# Altium integrated library Microchip PIC16 Part 2.IntLib: 1569 symbols (part 13 of 56)
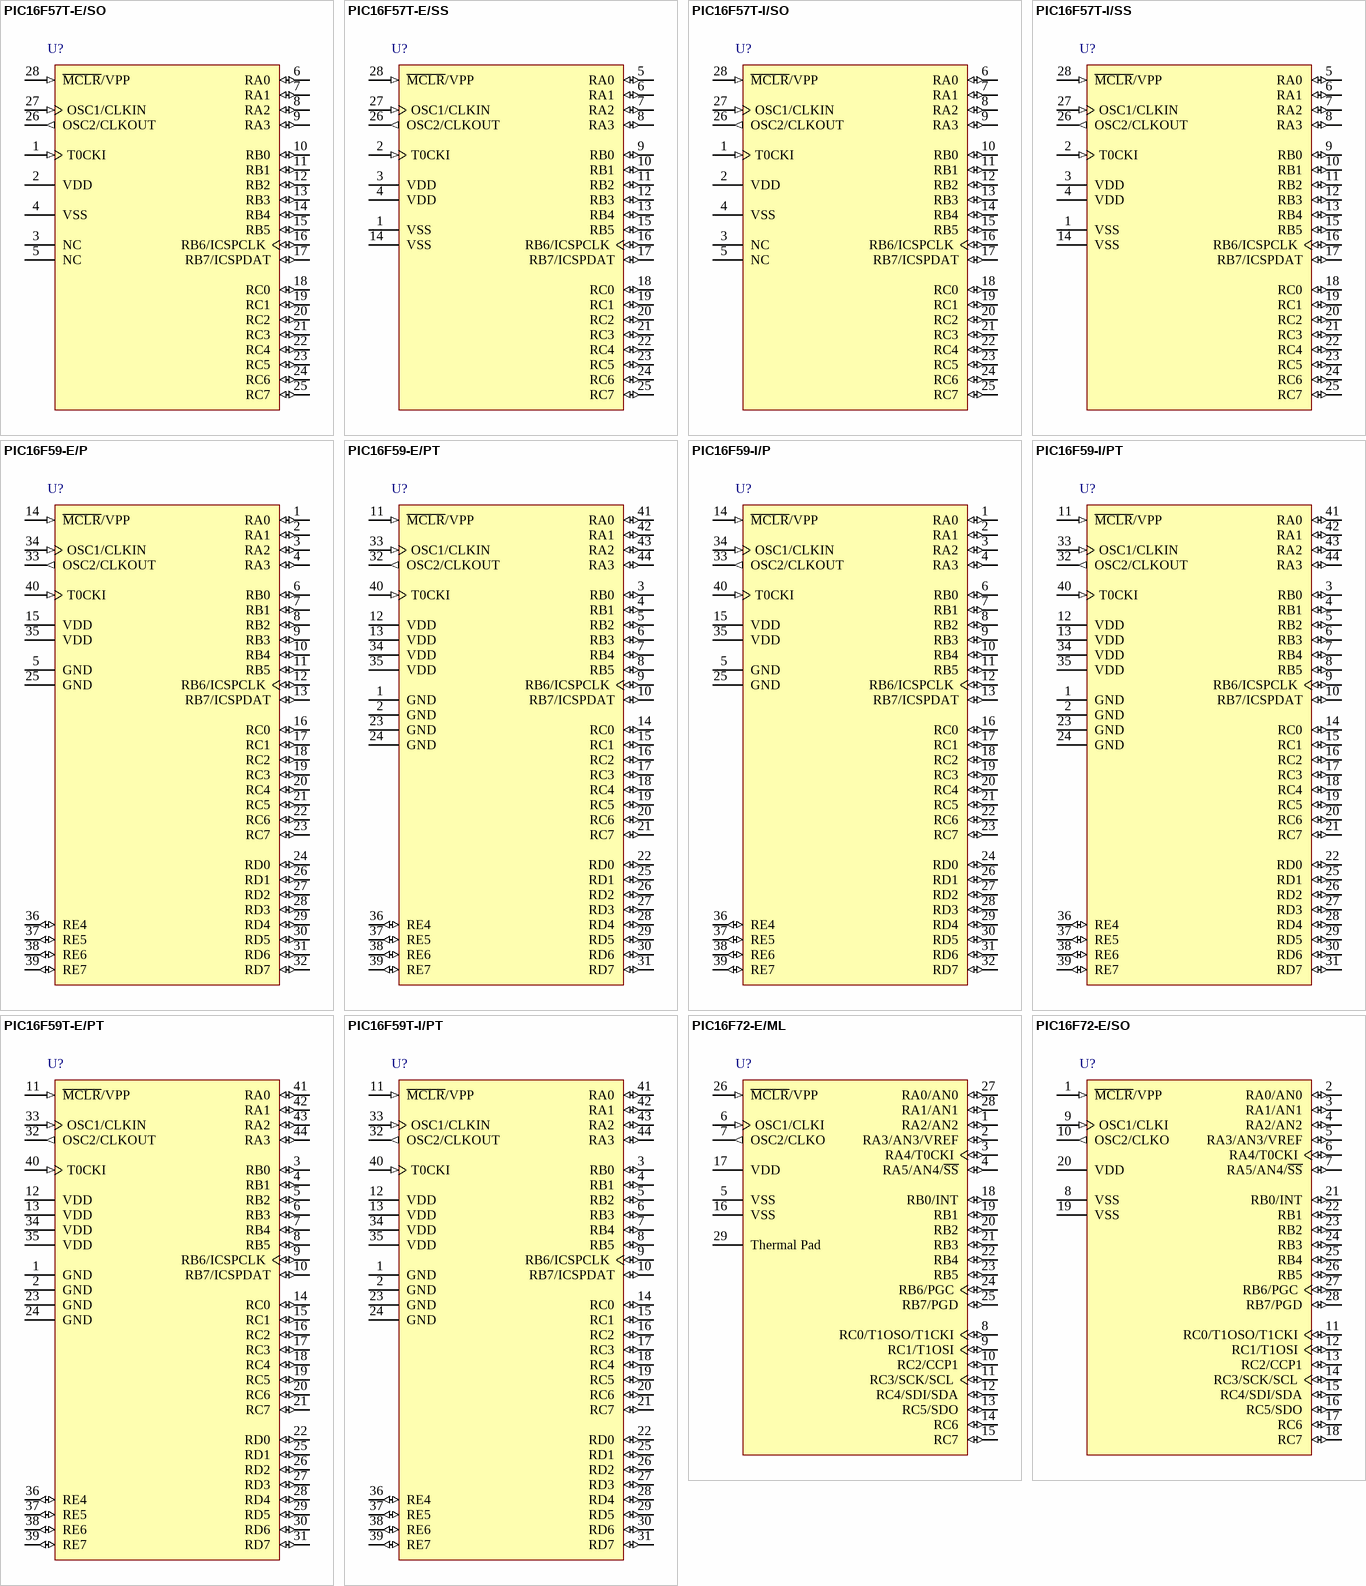
[diagram p137: symbols PIC16F57T-E/SO to PIC16F72-E/SO]

## PIC16F59-E/P
designator U?
Flash-Based, 8-Bit CMOS Microcontroller, 2K (x12-Bit words) Program Memory, 134 Bytes Data Memory, 32 I/O pins, 40-Pin PDIP, Standard VDD Range, Extended Temperature; Manufacturer: Microchip; PartNumber: PIC16F59-E/P; DatasheetVersion: revD, Apr-2007; PackageVersion: revBB, Aug-2009; PackageReference: PDIP600-P40; PackageDescription: 40-Lead Plastic Dual In-Line (P) - 600 mil Body [PDIP]; Supplier 1: Digi-Key; Supplier Part Number 1: PIC16F59-E/P-ND; Supplier 2: Mouser; Supplier Part Number 2: 579-PIC16F59-E/P; ComponentLink1Description: Manufacturer URL; ComponentLink1URL: http://www.microchip.com/; ComponentLink2Description: Datasheet; ComponentLink2URL: http://ww1.microchip.com/downloads/en/DeviceDoc/41213D.pdf; ComponentLink3Description: Package Specification; ComponentLink3URL: http://www.microchip.com/stellent/groups/techpub_sg/documents/packagingspec/en012702.pdf
footprint PDIP600-P40 (DIP, 40-Leads, Row Spacing 15.24mm, Pitch 2.54mm, Body 51.8x13.5mm)
pins: 1 RA0 (io), 2 RA1 (io), 3 RA2 (io), 4 RA3 (io), 5 GND (power), 6 RB0 (io), 7 RB1 (io), 8 RB2 (io), 9 RB3 (io), 10 RB4 (io), 11 RB5 (io), 12 RB6/ICSPCLK (io), 13 RB7/ICSPDAT (io), 14 ~{MCLR}/VPP (in), 15 VDD (power), 16 RC0 (io), 17 RC1 (io), 18 RC2 (io), 19 RC3 (io), 20 RC4 (io), 21 RC5 (io), 22 RC6 (io), 23 RC7 (io), 24 RD0 (io), 25 GND (power), 26 RD1 (io), 27 RD2 (io), 28 RD3 (io), 29 RD4 (io), 30 RD5 (io), 31 RD6 (io), 32 RD7 (io), 33 OSC2/CLKOUT (out), 34 OSC1/CLKIN (in), 35 VDD (power), 36 RE4 (io), 37 RE5 (io), 38 RE6 (io), 39 RE7 (io), 40 T0CKI (in)

## PIC16F59-E/PT
designator U?
Flash-Based, 8-Bit CMOS Microcontroller, 2K (x12-Bit words) Program Memory, 134 Bytes Data Memory, 32 I/O pins, 44-Pin TQFP, Standard VDD Range, Extended Temperature; Manufacturer: Microchip; PartNumber: PIC16F59-E/PT; DatasheetVersion: revD, Apr-2007; PackageVersion: revBB, Aug-2009; PackageReference: TQFP-PT44; PackageDescription: 44-Lead Plastic Thin Quad Flatpack (PT) - 10x10x1mm Body, 2.00mm [TQFP]; Supplier 1: Digi-Key; Supplier Part Number 1: PIC16F59-E/PT-ND; Supplier 2: Mouser; Supplier Part Number 2: 579-PIC16F59-E/PT; Code_JEDEC: MS-026; ComponentLink1Description: Manufacturer URL; ComponentLink1URL: http://www.microchip.com/; ComponentLink2Description: Datasheet; ComponentLink2URL: http://ww1.microchip.com/downloads/en/DeviceDoc/41213D.pdf; ComponentLink3Description: Package Specification; ComponentLink3URL: http://www.microchip.com/stellent/groups/techpub_sg/documents/packagingspec/en012702.pdf
footprint TQFP-PT44_N (Thin QFP, 44-Leads, Body 10x10mm, Pitch 0.8mm, IPC Medium Density)
footprint TQFP-PT44_L (Thin QFP, 44-Leads, Body 10x10mm, Pitch 0.8mm, IPC High Density)
footprint TQFP-PT44_M (Thin QFP, 44-Leads, Body 10x10mm, Pitch 0.8mm, IPC Low Density)
pins: 1 GND (power), 2 GND (power), 3 RB0 (io), 4 RB1 (io), 5 RB2 (io), 6 RB3 (io), 7 RB4 (io), 8 RB5 (io), 9 RB6/ICSPCLK (io), 10 RB7/ICSPDAT (io), 11 ~{MCLR}/VPP (in), 12 VDD (power), 13 VDD (power), 14 RC0 (io), 15 RC1 (io), 16 RC2 (io), 17 RC3 (io), 18 RC4 (io), 19 RC5 (io), 20 RC6 (io), 21 RC7 (io), 22 RD0 (io), 23 GND (power), 24 GND (power), 25 RD1 (io), 26 RD2 (io), 27 RD3 (io), 28 RD4 (io), 29 RD5 (io), 30 RD6 (io), 31 RD7 (io), 32 OSC2/CLKOUT (out), 33 OSC1/CLKIN (in), 34 VDD (power), 35 VDD (power), 36 RE4 (io), 37 RE5 (io), 38 RE6 (io), 39 RE7 (io), 40 T0CKI (in), 41 RA0 (io), 42 RA1 (io), 43 RA2 (io), 44 RA3 (io)

## PIC16F59-I/P
designator U?
Flash-Based, 8-Bit CMOS Microcontroller, 2K (x12-Bit words) Program Memory, 134 Bytes Data Memory, 32 I/O pins, 40-Pin PDIP, Standard VDD Range, Industrial Temperature; Manufacturer: Microchip; PartNumber: PIC16F59-I/P; DatasheetVersion: revD, Apr-2007; PackageVersion: revBB, Aug-2009; PackageReference: PDIP600-P40; PackageDescription: 40-Lead Plastic Dual In-Line (P) - 600 mil Body [PDIP]; Supplier 1: Digi-Key; Supplier Part Number 1: PIC16F59-I/P-ND; Supplier 2: Farnell; Supplier Part Number 2: 9942866; Supplier 3: Newark; Supplier Part Number 3: 92K8086; Supplier 4: Newark; Supplier Part Number 4: 56J7493; Supplier 5: Mouser; Supplier Part Number 5: 579-PIC16F59-I/P; ComponentLink1Description: Manufacturer URL; ComponentLink1URL: http://www.microchip.com/; ComponentLink2Description: Datasheet; ComponentLink2URL: http://ww1.microchip.com/downloads/en/DeviceDoc/41213D.pdf; ComponentLink3Description: Package Specification; ComponentLink3URL: http://www.microchip.com/stellent/groups/techpub_sg/documents/packagingspec/en012702.pdf
footprint PDIP600-P40 (DIP, 40-Leads, Row Spacing 15.24mm, Pitch 2.54mm, Body 51.8x13.5mm)
pins: 1 RA0 (io), 2 RA1 (io), 3 RA2 (io), 4 RA3 (io), 5 GND (power), 6 RB0 (io), 7 RB1 (io), 8 RB2 (io), 9 RB3 (io), 10 RB4 (io), 11 RB5 (io), 12 RB6/ICSPCLK (io), 13 RB7/ICSPDAT (io), 14 ~{MCLR}/VPP (in), 15 VDD (power), 16 RC0 (io), 17 RC1 (io), 18 RC2 (io), 19 RC3 (io), 20 RC4 (io), 21 RC5 (io), 22 RC6 (io), 23 RC7 (io), 24 RD0 (io), 25 GND (power), 26 RD1 (io), 27 RD2 (io), 28 RD3 (io), 29 RD4 (io), 30 RD5 (io), 31 RD6 (io), 32 RD7 (io), 33 OSC2/CLKOUT (out), 34 OSC1/CLKIN (in), 35 VDD (power), 36 RE4 (io), 37 RE5 (io), 38 RE6 (io), 39 RE7 (io), 40 T0CKI (in)

## PIC16F59-I/PT
designator U?
Flash-Based, 8-Bit CMOS Microcontroller, 2K (x12-Bit words) Program Memory, 134 Bytes Data Memory, 32 I/O pins, 44-Pin TQFP, Standard VDD Range, Industrial Temperature; Manufacturer: Microchip; PartNumber: PIC16F59-I/PT; DatasheetVersion: revD, Apr-2007; PackageVersion: revBB, Aug-2009; PackageReference: TQFP-PT44; PackageDescription: 44-Lead Plastic Thin Quad Flatpack (PT) - 10x10x1mm Body, 2.00mm [TQFP]; Supplier 1: Digi-Key; Supplier Part Number 1: PIC16F59-I/PT-ND; Supplier 2: Farnell; Supplier Part Number 2: 1607934MPKG; Supplier 3: Farnell; Supplier Part Number 3: 1607934; Supplier 4: Newark; Supplier Part Number 4: 56J7494; Supplier 5: Mouser; Supplier Part Number 5: 579-PIC16F59-I/PT; Code_JEDEC: MS-026; ComponentLink1Description: Manufacturer URL; ComponentLink1URL: http://www.microchip.com/; ComponentLink2Description: Datasheet; ComponentLink2URL: http://ww1.microchip.com/downloads/en/DeviceDoc/41213D.pdf; ComponentLink3Description: Package Specification; ComponentLink3URL: http://www.microchip.com/stellent/groups/techpub_sg/documents/packagingspec/en012702.pdf
footprint TQFP-PT44_N (Thin QFP, 44-Leads, Body 10x10mm, Pitch 0.8mm, IPC Medium Density)
footprint TQFP-PT44_L (Thin QFP, 44-Leads, Body 10x10mm, Pitch 0.8mm, IPC High Density)
footprint TQFP-PT44_M (Thin QFP, 44-Leads, Body 10x10mm, Pitch 0.8mm, IPC Low Density)
pins: 1 GND (power), 2 GND (power), 3 RB0 (io), 4 RB1 (io), 5 RB2 (io), 6 RB3 (io), 7 RB4 (io), 8 RB5 (io), 9 RB6/ICSPCLK (io), 10 RB7/ICSPDAT (io), 11 ~{MCLR}/VPP (in), 12 VDD (power), 13 VDD (power), 14 RC0 (io), 15 RC1 (io), 16 RC2 (io), 17 RC3 (io), 18 RC4 (io), 19 RC5 (io), 20 RC6 (io), 21 RC7 (io), 22 RD0 (io), 23 GND (power), 24 GND (power), 25 RD1 (io), 26 RD2 (io), 27 RD3 (io), 28 RD4 (io), 29 RD5 (io), 30 RD6 (io), 31 RD7 (io), 32 OSC2/CLKOUT (out), 33 OSC1/CLKIN (in), 34 VDD (power), 35 VDD (power), 36 RE4 (io), 37 RE5 (io), 38 RE6 (io), 39 RE7 (io), 40 T0CKI (in), 41 RA0 (io), 42 RA1 (io), 43 RA2 (io), 44 RA3 (io)

## PIC16F59T-E/PT
designator U?
Flash-Based, 8-Bit CMOS Microcontroller, 2K (x12-Bit words) Program Memory, 134 Bytes Data Memory, 32 I/O pins, 44-Pin TQFP, Standard VDD Range, Extended Temperature, Tape and Reel; Manufacturer: Microchip; PartNumber: PIC16F59T-E/PT; DatasheetVersion: revD, Apr-2007; PackageVersion: revBB, Aug-2009; PackageReference: TQFP-PT44; PackageDescription: 44-Lead Plastic Thin Quad Flatpack (PT) - 10x10x1mm Body, 2.00mm [TQFP]; Code_JEDEC: MS-026; ComponentLink1Description: Manufacturer URL; ComponentLink1URL: http://www.microchip.com/; ComponentLink2Description: Datasheet; ComponentLink2URL: http://ww1.microchip.com/downloads/en/DeviceDoc/41213D.pdf; ComponentLink3Description: Package Specification; ComponentLink3URL: http://www.microchip.com/stellent/groups/techpub_sg/documents/packagingspec/en012702.pdf
footprint TQFP-PT44_N (Thin QFP, 44-Leads, Body 10x10mm, Pitch 0.8mm, IPC Medium Density)
footprint TQFP-PT44_L (Thin QFP, 44-Leads, Body 10x10mm, Pitch 0.8mm, IPC High Density)
footprint TQFP-PT44_M (Thin QFP, 44-Leads, Body 10x10mm, Pitch 0.8mm, IPC Low Density)
pins: 1 GND (power), 2 GND (power), 3 RB0 (io), 4 RB1 (io), 5 RB2 (io), 6 RB3 (io), 7 RB4 (io), 8 RB5 (io), 9 RB6/ICSPCLK (io), 10 RB7/ICSPDAT (io), 11 ~{MCLR}/VPP (in), 12 VDD (power), 13 VDD (power), 14 RC0 (io), 15 RC1 (io), 16 RC2 (io), 17 RC3 (io), 18 RC4 (io), 19 RC5 (io), 20 RC6 (io), 21 RC7 (io), 22 RD0 (io), 23 GND (power), 24 GND (power), 25 RD1 (io), 26 RD2 (io), 27 RD3 (io), 28 RD4 (io), 29 RD5 (io), 30 RD6 (io), 31 RD7 (io), 32 OSC2/CLKOUT (out), 33 OSC1/CLKIN (in), 34 VDD (power), 35 VDD (power), 36 RE4 (io), 37 RE5 (io), 38 RE6 (io), 39 RE7 (io), 40 T0CKI (in), 41 RA0 (io), 42 RA1 (io), 43 RA2 (io), 44 RA3 (io)

## PIC16F59T-I/PT
designator U?
Flash-Based, 8-Bit CMOS Microcontroller, 2K (x12-Bit words) Program Memory, 134 Bytes Data Memory, 32 I/O pins, 44-Pin TQFP, Standard VDD Range, Industrial Temperature, Tape and Reel; Manufacturer: Microchip; PartNumber: PIC16F59T-I/PT; DatasheetVersion: revD, Apr-2007; PackageVersion: revBB, Aug-2009; PackageReference: TQFP-PT44; PackageDescription: 44-Lead Plastic Thin Quad Flatpack (PT) - 10x10x1mm Body, 2.00mm [TQFP]; Supplier 1: Digi-Key; Supplier Part Number 1: PIC16F59T-I/PT-ND; Supplier 2: Newark; Supplier Part Number 2: 56J7495; Supplier 3: Mouser; Supplier Part Number 3: 579-PIC16F59T-I/PT; Code_JEDEC: MS-026; ComponentLink1Description: Manufacturer URL; ComponentLink1URL: http://www.microchip.com/; ComponentLink2Description: Datasheet; ComponentLink2URL: http://ww1.microchip.com/downloads/en/DeviceDoc/41213D.pdf; ComponentLink3Description: Package Specification; ComponentLink3URL: http://www.microchip.com/stellent/groups/techpub_sg/documents/packagingspec/en012702.pdf
footprint TQFP-PT44_N (Thin QFP, 44-Leads, Body 10x10mm, Pitch 0.8mm, IPC Medium Density)
footprint TQFP-PT44_L (Thin QFP, 44-Leads, Body 10x10mm, Pitch 0.8mm, IPC High Density)
footprint TQFP-PT44_M (Thin QFP, 44-Leads, Body 10x10mm, Pitch 0.8mm, IPC Low Density)
pins: 1 GND (power), 2 GND (power), 3 RB0 (io), 4 RB1 (io), 5 RB2 (io), 6 RB3 (io), 7 RB4 (io), 8 RB5 (io), 9 RB6/ICSPCLK (io), 10 RB7/ICSPDAT (io), 11 ~{MCLR}/VPP (in), 12 VDD (power), 13 VDD (power), 14 RC0 (io), 15 RC1 (io), 16 RC2 (io), 17 RC3 (io), 18 RC4 (io), 19 RC5 (io), 20 RC6 (io), 21 RC7 (io), 22 RD0 (io), 23 GND (power), 24 GND (power), 25 RD1 (io), 26 RD2 (io), 27 RD3 (io), 28 RD4 (io), 29 RD5 (io), 30 RD6 (io), 31 RD7 (io), 32 OSC2/CLKOUT (out), 33 OSC1/CLKIN (in), 34 VDD (power), 35 VDD (power), 36 RE4 (io), 37 RE5 (io), 38 RE6 (io), 39 RE7 (io), 40 T0CKI (in), 41 RA0 (io), 42 RA1 (io), 43 RA2 (io), 44 RA3 (io)

## PIC16F72-E/ML
designator U?
8-Bit CMOS FLASH Microcontoller with A/D Converter, 2K (x14-Bit words) Program Memory, 128 Bytes Data Memory, 22 I/O pins, 28-Pin QFN, Standard VDD Range, Extended Temperature; Manufacturer: Microchip; PartNumber: PIC16F72-E/ML; DatasheetVersion: revC, Jan-2007; PackageVersion: revBB, Aug-2009; PackageReference: QFN-ML28; PackageDescription: 28-Lead Plastic Quad Flat, No Lead Package (ML) - 6x6 mm Body [QFN] with 0.55 mm Contact Length; Supplier 1: Digi-Key; Supplier Part Number 1: PIC16F72-E/ML-ND; Supplier 2: Mouser; Supplier Part Number 2: 579-PIC16F72-E/ML; Code_JEDEC: MO-220; ComponentLink1Description: Manufacturer URL; ComponentLink1URL: http://www.microchip.com/; ComponentLink2Description: Datasheet; ComponentLink2URL: http://ww1.microchip.com/downloads/en/DeviceDoc/39597C.pdf; ComponentLink3Description: Package Specification; ComponentLink3URL: http://www.microchip.com/stellent/groups/techpub_sg/documents/packagingspec/en012702.pdf
footprint QFN-ML28_N (QFN, 28-Leads, Body 6x6mm, Pitch 0.65mm, Thermal Pad 4.2x4.2mm, IPC Medium Density)
footprint QFN-ML28_L (QFN, 28-Leads, Body 6x6mm, Pitch 0.65mm, Thermal Pad 4.2x4.2mm, IPC High Density)
footprint QFN-ML28_M (QFN, 28-Leads, Body 6x6mm, Pitch 0.65mm, Thermal Pad 4.2x4.2mm, IPC Low Density)
pins: 1 RA2/AN2 (io), 2 RA3/AN3/VREF (io), 3 RA4/T0CKI (io), 4 RA5/AN4/~{SS} (io), 5 VSS (power), 6 OSC1/CLKI (in), 7 OSC2/CLKO (out), 8 RC0/T1OSO/T1CKI (io), 9 RC1/T1OSI (io), 10 RC2/CCP1 (io), 11 RC3/SCK/SCL (io), 12 RC4/SDI/SDA (io), 13 RC5/SDO (io), 14 RC6 (io), 15 RC7 (io), 16 VSS (power), 17 VDD (power), 18 RB0/INT (io), 19 RB1 (io), 20 RB2 (io), 21 RB3 (io), 22 RB4 (io), 23 RB5 (io), 24 RB6/PGC (io), 25 RB7/PGD (io), 26 ~{MCLR}/VPP (in), 27 RA0/AN0 (io), 28 RA1/AN1 (io), 29 Thermal Pad

## PIC16F72-E/SO
designator U?
8-Bit CMOS FLASH Microcontroller with A/D Converter, 2K (x14-Bit words) FLASH, 128 Bytes RAM, 28-Pin SOIC, Standard VDD Range, Extended Temperature; Manufacturer: Microchip; PartNumber: PIC16F72-E/SO; DatasheetVersion: revC, Jan-2007; PackageVersion: revBB, Aug-2009; PackageReference: SOIC-SO28; PackageDescription: 28-Lead Plastic Small Outline (SO) - Wide 7.50mm Body [SOIC]; Supplier 1: Digi-Key; Supplier Part Number 1: PIC16F72-E/SO-ND; Supplier 2: Newark; Supplier Part Number 2: 72C4299; Supplier 3: Mouser; Supplier Part Number 3: 579-PIC16F72-E/SO; Code_JEDEC: MS-013; ComponentLink1Description: Manufacturer URL; ComponentLink1URL: http://www.microchip.com/; ComponentLink2Description: Datasheet; ComponentLink2URL: http://ww1.microchip.com/downloads/en/DeviceDoc/39597C.pdf; ComponentLink3Description: Package Specification; ComponentLink3URL: http://www.microchip.com/stellent/groups/techpub_sg/documents/packagingspec/en012702.pdf
footprint SOIC-SO28_N (SOIC, 28-Leads, Body 17.9x7.5mm, Pitch 1.27mm, IPC Medium Density)
footprint SOIC-SO28_L (SOIC, 28-Leads, Body 17.9x7.5mm, Pitch 1.27mm, IPC High Density)
footprint SOIC-SO28_M (SOIC, 28-Leads, Body 17.9x7.5mm, Pitch 1.27mm, IPC Low Density)
pins: 1 ~{MCLR}/VPP (in), 2 RA0/AN0 (io), 3 RA1/AN1 (io), 4 RA2/AN2 (io), 5 RA3/AN3/VREF (io), 6 RA4/T0CKI (io), 7 RA5/AN4/~{SS} (io), 8 VSS (power), 9 OSC1/CLKI (in), 10 OSC2/CLKO (out), 11 RC0/T1OSO/T1CKI (io), 12 RC1/T1OSI (io), 13 RC2/CCP1 (io), 14 RC3/SCK/SCL (io), 15 RC4/SDI/SDA (io), 16 RC5/SDO (io), 17 RC6 (io), 18 RC7 (io), 19 VSS (power), 20 VDD (power), 21 RB0/INT (io), 22 RB1 (io), 23 RB2 (io), 24 RB3 (io), 25 RB4 (io), 26 RB5 (io), 27 RB6/PGC (io), 28 RB7/PGD (io)

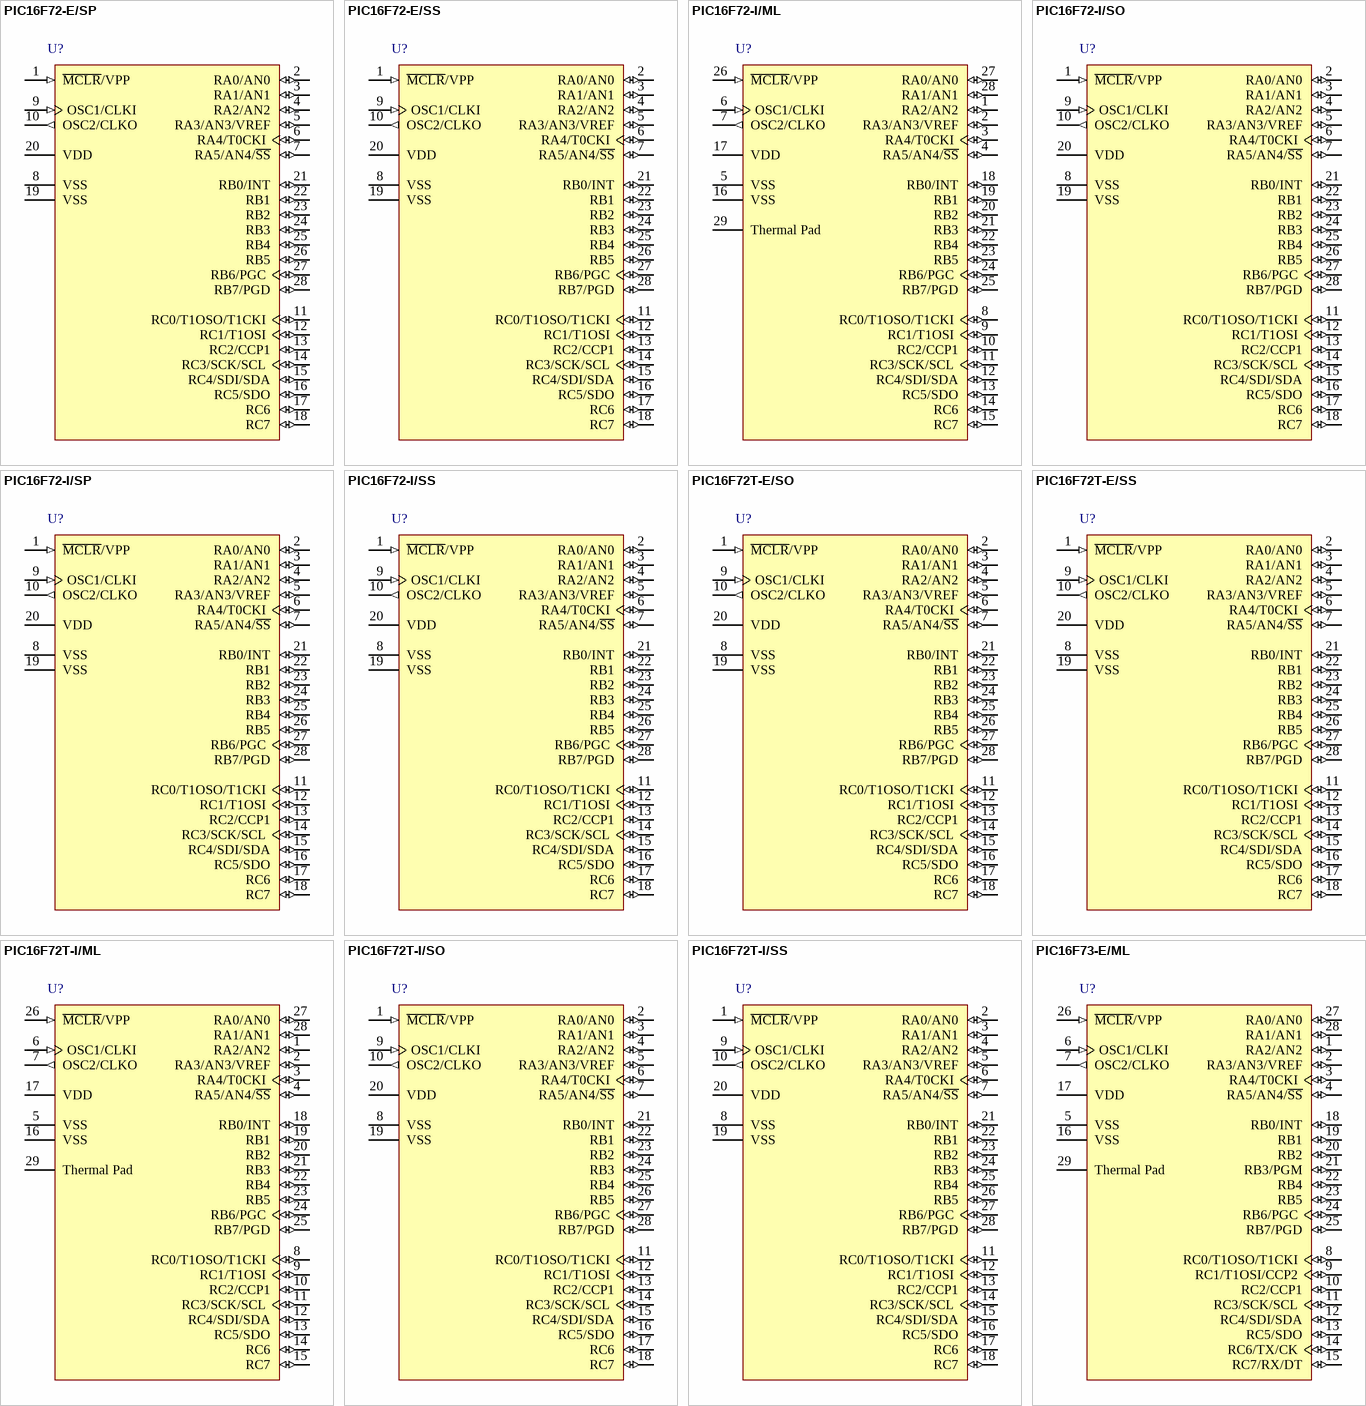
[diagram p25: symbols PIC16F72-E/SP to PIC16F73-E/ML]

## PIC16F72-E/SP
designator U?
8-Bit CMOS FLASH Microcontroller with A/D Converter, 2K (x14-Bit words) FLASH, 128 Bytes RAM, 28-Pin PDIP 300mil, Standard VDD Range, Extended Temperature; Manufacturer: Microchip; PartNumber: PIC16F72-E/SP; DatasheetVersion: revC, Jan-2007; PackageVersion: revBB, Aug-2009; PackageReference: SPDIP300-SP28; PackageDescription: 28-Lead Skinny Plastic Dual In-Line (SP) - 300 mil Body [SPDIP]; Supplier 1: Digi-Key; Supplier Part Number 1: PIC16F72-E/SP-ND; Supplier 2: Mouser; Supplier Part Number 2: 579-PIC16F72-E/SP; ComponentLink1Description: Manufacturer URL; ComponentLink1URL: http://www.microchip.com/; ComponentLink2Description: Datasheet; ComponentLink2URL: http://ww1.microchip.com/downloads/en/DeviceDoc/39597C.pdf; ComponentLink3Description: Package Specification; ComponentLink3URL: http://www.microchip.com/stellent/groups/techpub_sg/documents/packagingspec/en012702.pdf
footprint SPDIP300-SP28 (DIP, 28-Leads, Row Spacing 7.62mm, Pitch 2.54mm, Body 34.9x6.8mm)
pins: 1 ~{MCLR}/VPP (in), 2 RA0/AN0 (io), 3 RA1/AN1 (io), 4 RA2/AN2 (io), 5 RA3/AN3/VREF (io), 6 RA4/T0CKI (io), 7 RA5/AN4/~{SS} (io), 8 VSS (power), 9 OSC1/CLKI (in), 10 OSC2/CLKO (out), 11 RC0/T1OSO/T1CKI (io), 12 RC1/T1OSI (io), 13 RC2/CCP1 (io), 14 RC3/SCK/SCL (io), 15 RC4/SDI/SDA (io), 16 RC5/SDO (io), 17 RC6 (io), 18 RC7 (io), 19 VSS (power), 20 VDD (power), 21 RB0/INT (io), 22 RB1 (io), 23 RB2 (io), 24 RB3 (io), 25 RB4 (io), 26 RB5 (io), 27 RB6/PGC (io), 28 RB7/PGD (io)

## PIC16F72-E/SS
designator U?
8-Bit CMOS FLASH Microcontroller with A/D Converter, 2K (x14-Bit words) FLASH, 128 Bytes RAM, 28-Pin SSOP, Standard VDD Range, Extended Temperature; Manufacturer: Microchip; PartNumber: PIC16F72-E/SS; DatasheetVersion: revC, Jan-2007; PackageVersion: revBB, Aug-2009; PackageReference: SSOP-SS28; PackageDescription: 28-Lead Plastic Shrink Small Outline (SS) - 5.3mm Body [SSOP]; Supplier 1: Digi-Key; Supplier Part Number 1: PIC16F72-E/SS-ND; Supplier 2: Newark; Supplier Part Number 2: 72C4301; Supplier 3: Mouser; Supplier Part Number 3: 579-PIC16F72-E/SS; Code_JEDEC: MS-150; ComponentLink1Description: Manufacturer URL; ComponentLink1URL: http://www.microchip.com/; ComponentLink2Description: Datasheet; ComponentLink2URL: http://ww1.microchip.com/downloads/en/DeviceDoc/39597C.pdf; ComponentLink3Description: Package Specification; ComponentLink3URL: http://www.microchip.com/stellent/groups/techpub_sg/documents/packagingspec/en012702.pdf
footprint SSOP-SS28_N (SOP, 28-Leads, Body 10.2x5.2mm, Pitch 0.65mm, IPC Medium Density)
footprint SSOP-SS28_L (SOP, 28-Leads, Body 10.2x5.2mm, Pitch 0.65mm, IPC High Density)
footprint SSOP-SS28_M (SOP, 28-Leads, Body 10.2x5.2mm, Pitch 0.65mm, IPC Low Density)
pins: 1 ~{MCLR}/VPP (in), 2 RA0/AN0 (io), 3 RA1/AN1 (io), 4 RA2/AN2 (io), 5 RA3/AN3/VREF (io), 6 RA4/T0CKI (io), 7 RA5/AN4/~{SS} (io), 8 VSS (power), 9 OSC1/CLKI (in), 10 OSC2/CLKO (out), 11 RC0/T1OSO/T1CKI (io), 12 RC1/T1OSI (io), 13 RC2/CCP1 (io), 14 RC3/SCK/SCL (io), 15 RC4/SDI/SDA (io), 16 RC5/SDO (io), 17 RC6 (io), 18 RC7 (io), 19 VSS (power), 20 VDD (power), 21 RB0/INT (io), 22 RB1 (io), 23 RB2 (io), 24 RB3 (io), 25 RB4 (io), 26 RB5 (io), 27 RB6/PGC (io), 28 RB7/PGD (io)

## PIC16F72-I/ML
designator U?
8-Bit CMOS FLASH Microcontroller with A/D Converter, 2K (x14-Bit words) FLASH, 128 Bytes RAM, 28-Pin QFN, Standard VDD Range, Industrial Temperature; Manufacturer: Microchip; PartNumber: PIC16F72-I/ML; DatasheetVersion: revC, Jan-2007; PackageVersion: revBB, Aug-2009; PackageReference: QFN-ML28; PackageDescription: 28-Lead Plastic Quad Flat, No Lead Package (ML) - 6x6 mm Body [QFN] with 0.55 mm Contact Length; Supplier 1: Digi-Key; Supplier Part Number 1: PIC16F72-I/ML-ND; Supplier 2: Newark; Supplier Part Number 2: 73K1292; Supplier 3: Mouser; Supplier Part Number 3: 579-PIC16F72-I/ML; Code_JEDEC: MO-220; ComponentLink1Description: Manufacturer URL; ComponentLink1URL: http://www.microchip.com/; ComponentLink2Description: Datasheet; ComponentLink2URL: http://ww1.microchip.com/downloads/en/DeviceDoc/39597C.pdf; ComponentLink3Description: Package Specification; ComponentLink3URL: http://www.microchip.com/stellent/groups/techpub_sg/documents/packagingspec/en012702.pdf
footprint QFN-ML28_N (QFN, 28-Leads, Body 6x6mm, Pitch 0.65mm, Thermal Pad 4.2x4.2mm, IPC Medium Density)
footprint QFN-ML28_L (QFN, 28-Leads, Body 6x6mm, Pitch 0.65mm, Thermal Pad 4.2x4.2mm, IPC High Density)
footprint QFN-ML28_M (QFN, 28-Leads, Body 6x6mm, Pitch 0.65mm, Thermal Pad 4.2x4.2mm, IPC Low Density)
pins: 1 RA2/AN2 (io), 2 RA3/AN3/VREF (io), 3 RA4/T0CKI (io), 4 RA5/AN4/~{SS} (io), 5 VSS (power), 6 OSC1/CLKI (in), 7 OSC2/CLKO (out), 8 RC0/T1OSO/T1CKI (io), 9 RC1/T1OSI (io), 10 RC2/CCP1 (io), 11 RC3/SCK/SCL (io), 12 RC4/SDI/SDA (io), 13 RC5/SDO (io), 14 RC6 (io), 15 RC7 (io), 16 VSS (power), 17 VDD (power), 18 RB0/INT (io), 19 RB1 (io), 20 RB2 (io), 21 RB3 (io), 22 RB4 (io), 23 RB5 (io), 24 RB6/PGC (io), 25 RB7/PGD (io), 26 ~{MCLR}/VPP (in), 27 RA0/AN0 (io), 28 RA1/AN1 (io), 29 Thermal Pad

## PIC16F72-I/SO
designator U?
8-Bit CMOS FLASH Microcontroller with A/D Converter, 2K (x14-Bit words) FLASH, 128 Bytes RAM, 28-Pin SOIC, Standard VDD Range, Industrial Temperature; Manufacturer: Microchip; PartNumber: PIC16F72-I/SO; DatasheetVersion: revC, Jan-2007; PackageVersion: revBB, Aug-2009; PackageReference: SOIC-SO28; PackageDescription: 28-Lead Plastic Small Outline (SO) - Wide 7.50mm Body [SOIC]; Supplier 1: Digi-Key; Supplier Part Number 1: PIC16F72-I/SO-ND; Supplier 2: Farnell; Supplier Part Number 2: 9760628; Supplier 3: Newark; Supplier Part Number 3: 72C4303; Supplier 4: Mouser; Supplier Part Number 4: 579-PIC16F72-I/SO; Code_JEDEC: MS-013; ComponentLink1Description: Manufacturer URL; ComponentLink1URL: http://www.microchip.com/; ComponentLink2Description: Datasheet; ComponentLink2URL: http://ww1.microchip.com/downloads/en/DeviceDoc/39597C.pdf; ComponentLink3Description: Package Specification; ComponentLink3URL: http://www.microchip.com/stellent/groups/techpub_sg/documents/packagingspec/en012702.pdf
footprint SOIC-SO28_N (SOIC, 28-Leads, Body 17.9x7.5mm, Pitch 1.27mm, IPC Medium Density)
footprint SOIC-SO28_L (SOIC, 28-Leads, Body 17.9x7.5mm, Pitch 1.27mm, IPC High Density)
footprint SOIC-SO28_M (SOIC, 28-Leads, Body 17.9x7.5mm, Pitch 1.27mm, IPC Low Density)
pins: 1 ~{MCLR}/VPP (in), 2 RA0/AN0 (io), 3 RA1/AN1 (io), 4 RA2/AN2 (io), 5 RA3/AN3/VREF (io), 6 RA4/T0CKI (io), 7 RA5/AN4/~{SS} (io), 8 VSS (power), 9 OSC1/CLKI (in), 10 OSC2/CLKO (out), 11 RC0/T1OSO/T1CKI (io), 12 RC1/T1OSI (io), 13 RC2/CCP1 (io), 14 RC3/SCK/SCL (io), 15 RC4/SDI/SDA (io), 16 RC5/SDO (io), 17 RC6 (io), 18 RC7 (io), 19 VSS (power), 20 VDD (power), 21 RB0/INT (io), 22 RB1 (io), 23 RB2 (io), 24 RB3 (io), 25 RB4 (io), 26 RB5 (io), 27 RB6/PGC (io), 28 RB7/PGD (io)

## PIC16F72-I/SP
designator U?
8-Bit CMOS FLASH Microcontroller with A/D Converter, 2K (x14-Bit words) FLASH, 128 Bytes RAM, 28-Pin PDIP 300mil, Standard VDD Range, Industrial Temperature; Manufacturer: Microchip; PartNumber: PIC16F72-I/SP; DatasheetVersion: revC, Jan-2007; PackageVersion: revBB, Aug-2009; PackageReference: SPDIP300-SP28; PackageDescription: 28-Lead Skinny Plastic Dual In-Line (SP) - 300 mil Body [SPDIP]; Supplier 1: Digi-Key; Supplier Part Number 1: PIC16F72-I/SP-ND; Supplier 2: Farnell; Supplier Part Number 2: 9760636; Supplier 3: Newark; Supplier Part Number 3: 72C4304; Supplier 4: Mouser; Supplier Part Number 4: 579-PIC16F72-I/SP; ComponentLink1Description: Manufacturer URL; ComponentLink1URL: http://www.microchip.com/; ComponentLink2Description: Datasheet; ComponentLink2URL: http://ww1.microchip.com/downloads/en/DeviceDoc/39597C.pdf; ComponentLink3Description: Package Specification; ComponentLink3URL: http://www.microchip.com/stellent/groups/techpub_sg/documents/packagingspec/en012702.pdf
footprint SPDIP300-SP28 (DIP, 28-Leads, Row Spacing 7.62mm, Pitch 2.54mm, Body 34.9x6.8mm)
pins: 1 ~{MCLR}/VPP (in), 2 RA0/AN0 (io), 3 RA1/AN1 (io), 4 RA2/AN2 (io), 5 RA3/AN3/VREF (io), 6 RA4/T0CKI (io), 7 RA5/AN4/~{SS} (io), 8 VSS (power), 9 OSC1/CLKI (in), 10 OSC2/CLKO (out), 11 RC0/T1OSO/T1CKI (io), 12 RC1/T1OSI (io), 13 RC2/CCP1 (io), 14 RC3/SCK/SCL (io), 15 RC4/SDI/SDA (io), 16 RC5/SDO (io), 17 RC6 (io), 18 RC7 (io), 19 VSS (power), 20 VDD (power), 21 RB0/INT (io), 22 RB1 (io), 23 RB2 (io), 24 RB3 (io), 25 RB4 (io), 26 RB5 (io), 27 RB6/PGC (io), 28 RB7/PGD (io)

## PIC16F72-I/SS
designator U?
8-Bit CMOS FLASH Microcontroller with A/D Converter, 2K (x14-Bit words) FLASH, 128 Bytes RAM, 28-Pin SSOP, Standard VDD Range, Industrial Temperature; Manufacturer: Microchip; PartNumber: PIC16F72-I/SS; DatasheetVersion: revC, Jan-2007; PackageVersion: revBB, Aug-2009; PackageReference: SSOP-SS28; PackageDescription: 28-Lead Plastic Shrink Small Outline (SS) - 5.3mm Body [SSOP]; Supplier 1: Digi-Key; Supplier Part Number 1: PIC16F72-I/SS-ND; Supplier 2: Farnell; Supplier Part Number 2: 9760644; Supplier 3: Newark; Supplier Part Number 3: 72C4305; Supplier 4: Mouser; Supplier Part Number 4: 579-PIC16F72-I/SS; Code_JEDEC: MS-150; ComponentLink1Description: Manufacturer URL; ComponentLink1URL: http://www.microchip.com/; ComponentLink2Description: Datasheet; ComponentLink2URL: http://ww1.microchip.com/downloads/en/DeviceDoc/39597C.pdf; ComponentLink3Description: Package Specification; ComponentLink3URL: http://www.microchip.com/stellent/groups/techpub_sg/documents/packagingspec/en012702.pdf
footprint SSOP-SS28_N (SOP, 28-Leads, Body 10.2x5.2mm, Pitch 0.65mm, IPC Medium Density)
footprint SSOP-SS28_L (SOP, 28-Leads, Body 10.2x5.2mm, Pitch 0.65mm, IPC High Density)
footprint SSOP-SS28_M (SOP, 28-Leads, Body 10.2x5.2mm, Pitch 0.65mm, IPC Low Density)
pins: 1 ~{MCLR}/VPP (in), 2 RA0/AN0 (io), 3 RA1/AN1 (io), 4 RA2/AN2 (io), 5 RA3/AN3/VREF (io), 6 RA4/T0CKI (io), 7 RA5/AN4/~{SS} (io), 8 VSS (power), 9 OSC1/CLKI (in), 10 OSC2/CLKO (out), 11 RC0/T1OSO/T1CKI (io), 12 RC1/T1OSI (io), 13 RC2/CCP1 (io), 14 RC3/SCK/SCL (io), 15 RC4/SDI/SDA (io), 16 RC5/SDO (io), 17 RC6 (io), 18 RC7 (io), 19 VSS (power), 20 VDD (power), 21 RB0/INT (io), 22 RB1 (io), 23 RB2 (io), 24 RB3 (io), 25 RB4 (io), 26 RB5 (io), 27 RB6/PGC (io), 28 RB7/PGD (io)

## PIC16F72T-E/SO
designator U?
8-Bit CMOS FLASH Microcontroller with A/D Converter, 2K (x14-Bit words) FLASH, 128 Bytes RAM, 28-Pin SOIC, Standard VDD Range, Extended Temperature, Tape and Reel; Manufacturer: Microchip; PartNumber: PIC16F72T-E/SO; DatasheetVersion: revC, Jan-2007; PackageVersion: revBB, Aug-2009; PackageReference: SOIC-SO28; PackageDescription: 28-Lead Plastic Small Outline (SO) - Wide 7.50mm Body [SOIC]; Supplier 1: Digi-Key; Supplier Part Number 1: PIC16F72T-E/SO-ND; Supplier 2: Mouser; Supplier Part Number 2: 579-PIC16F72T-E/SO; Code_JEDEC: MS-013; ComponentLink1Description: Manufacturer URL; ComponentLink1URL: http://www.microchip.com/; ComponentLink2Description: Datasheet; ComponentLink2URL: http://ww1.microchip.com/downloads/en/DeviceDoc/39597C.pdf; ComponentLink3Description: Package Specification; ComponentLink3URL: http://www.microchip.com/stellent/groups/techpub_sg/documents/packagingspec/en012702.pdf
footprint SOIC-SO28_N (SOIC, 28-Leads, Body 17.9x7.5mm, Pitch 1.27mm, IPC Medium Density)
footprint SOIC-SO28_L (SOIC, 28-Leads, Body 17.9x7.5mm, Pitch 1.27mm, IPC High Density)
footprint SOIC-SO28_M (SOIC, 28-Leads, Body 17.9x7.5mm, Pitch 1.27mm, IPC Low Density)
pins: 1 ~{MCLR}/VPP (in), 2 RA0/AN0 (io), 3 RA1/AN1 (io), 4 RA2/AN2 (io), 5 RA3/AN3/VREF (io), 6 RA4/T0CKI (io), 7 RA5/AN4/~{SS} (io), 8 VSS (power), 9 OSC1/CLKI (in), 10 OSC2/CLKO (out), 11 RC0/T1OSO/T1CKI (io), 12 RC1/T1OSI (io), 13 RC2/CCP1 (io), 14 RC3/SCK/SCL (io), 15 RC4/SDI/SDA (io), 16 RC5/SDO (io), 17 RC6 (io), 18 RC7 (io), 19 VSS (power), 20 VDD (power), 21 RB0/INT (io), 22 RB1 (io), 23 RB2 (io), 24 RB3 (io), 25 RB4 (io), 26 RB5 (io), 27 RB6/PGC (io), 28 RB7/PGD (io)

## PIC16F72T-E/SS
designator U?
8-Bit CMOS FLASH Microcontroller with A/D Converter, 2K (x14-Bit words) FLASH, 128 Bytes RAM, 28-Pin SSOP, Standard VDD Range, Extended Temperature, Tape and Reel; Manufacturer: Microchip; PartNumber: PIC16F72T-E/SS; DatasheetVersion: revC, Jan-2007; PackageVersion: revBB, Aug-2009; PackageReference: SSOP-SS28; PackageDescription: 28-Lead Plastic Shrink Small Outline (SS) - 5.3mm Body [SSOP]; Supplier 1: Digi-Key; Supplier Part Number 1: PIC16F72T-E/SS-ND; Supplier 2: Mouser; Supplier Part Number 2: 579-PIC16F72T-E/SS; Code_JEDEC: MS-150; ComponentLink1Description: Manufacturer URL; ComponentLink1URL: http://www.microchip.com/; ComponentLink2Description: Datasheet; ComponentLink2URL: http://ww1.microchip.com/downloads/en/DeviceDoc/39597C.pdf; ComponentLink3Description: Package Specification; ComponentLink3URL: http://www.microchip.com/stellent/groups/techpub_sg/documents/packagingspec/en012702.pdf
footprint SSOP-SS28_N (SOP, 28-Leads, Body 10.2x5.2mm, Pitch 0.65mm, IPC Medium Density)
footprint SSOP-SS28_L (SOP, 28-Leads, Body 10.2x5.2mm, Pitch 0.65mm, IPC High Density)
footprint SSOP-SS28_M (SOP, 28-Leads, Body 10.2x5.2mm, Pitch 0.65mm, IPC Low Density)
pins: 1 ~{MCLR}/VPP (in), 2 RA0/AN0 (io), 3 RA1/AN1 (io), 4 RA2/AN2 (io), 5 RA3/AN3/VREF (io), 6 RA4/T0CKI (io), 7 RA5/AN4/~{SS} (io), 8 VSS (power), 9 OSC1/CLKI (in), 10 OSC2/CLKO (out), 11 RC0/T1OSO/T1CKI (io), 12 RC1/T1OSI (io), 13 RC2/CCP1 (io), 14 RC3/SCK/SCL (io), 15 RC4/SDI/SDA (io), 16 RC5/SDO (io), 17 RC6 (io), 18 RC7 (io), 19 VSS (power), 20 VDD (power), 21 RB0/INT (io), 22 RB1 (io), 23 RB2 (io), 24 RB3 (io), 25 RB4 (io), 26 RB5 (io), 27 RB6/PGC (io), 28 RB7/PGD (io)

## PIC16F72T-I/ML
designator U?
8-Bit CMOS FLASH Microcontroller with A/D Converter, 2K (x14-Bit words) FLASH, 128 Bytes RAM, 28-Pin QFN, Standard VDD Range, Industrial Temperature, Tape and Reel; Manufacturer: Microchip; PartNumber: PIC16F72T-I/ML; DatasheetVersion: revC, Jan-2007; PackageVersion: revBB, Aug-2009; PackageReference: QFN-ML28; PackageDescription: 28-Lead Plastic Quad Flat, No Lead Package (ML) - 6x6 mm Body [QFN] with 0.55 mm Contact Length; Supplier 1: Digi-Key; Supplier Part Number 1: PIC16F72T-I/ML-ND; Supplier 2: Mouser; Supplier Part Number 2: 579-PIC16F72T-I/ML; Code_JEDEC: MO-220; ComponentLink1Description: Manufacturer URL; ComponentLink1URL: http://www.microchip.com/; ComponentLink2Description: Datasheet; ComponentLink2URL: http://ww1.microchip.com/downloads/en/DeviceDoc/39597C.pdf; ComponentLink3Description: Package Specification; ComponentLink3URL: http://www.microchip.com/stellent/groups/techpub_sg/documents/packagingspec/en012702.pdf
footprint QFN-ML28_N (QFN, 28-Leads, Body 6x6mm, Pitch 0.65mm, Thermal Pad 4.2x4.2mm, IPC Medium Density)
footprint QFN-ML28_L (QFN, 28-Leads, Body 6x6mm, Pitch 0.65mm, Thermal Pad 4.2x4.2mm, IPC High Density)
footprint QFN-ML28_M (QFN, 28-Leads, Body 6x6mm, Pitch 0.65mm, Thermal Pad 4.2x4.2mm, IPC Low Density)
pins: 1 RA2/AN2 (io), 2 RA3/AN3/VREF (io), 3 RA4/T0CKI (io), 4 RA5/AN4/~{SS} (io), 5 VSS (power), 6 OSC1/CLKI (in), 7 OSC2/CLKO (out), 8 RC0/T1OSO/T1CKI (io), 9 RC1/T1OSI (io), 10 RC2/CCP1 (io), 11 RC3/SCK/SCL (io), 12 RC4/SDI/SDA (io), 13 RC5/SDO (io), 14 RC6 (io), 15 RC7 (io), 16 VSS (power), 17 VDD (power), 18 RB0/INT (io), 19 RB1 (io), 20 RB2 (io), 21 RB3 (io), 22 RB4 (io), 23 RB5 (io), 24 RB6/PGC (io), 25 RB7/PGD (io), 26 ~{MCLR}/VPP (in), 27 RA0/AN0 (io), 28 RA1/AN1 (io), 29 Thermal Pad

## PIC16F72T-I/SO
designator U?
8-Bit CMOS FLASH Microcontroller with A/D Converter, 2K (x14-Bit words) FLASH, 128 Bytes RAM, 28-Pin SOIC, Standard VDD Range, Industrial Temperature, Tape and Reel; Manufacturer: Microchip; PartNumber: PIC16F72T-I/SO; DatasheetVersion: revC, Jan-2007; PackageVersion: revBB, Aug-2009; PackageReference: SOIC-SO28; PackageDescription: 28-Lead Plastic Small Outline (SO) - Wide 7.50mm Body [SOIC]; Supplier 1: Digi-Key; Supplier Part Number 1: PIC16F72T-I/SO-ND; Supplier 2: Mouser; Supplier Part Number 2: 579-PIC16F72T-I/SO; Code_JEDEC: MS-013; ComponentLink1Description: Manufacturer URL; ComponentLink1URL: http://www.microchip.com/; ComponentLink2Description: Datasheet; ComponentLink2URL: http://ww1.microchip.com/downloads/en/DeviceDoc/39597C.pdf; ComponentLink3Description: Package Specification; ComponentLink3URL: http://www.microchip.com/stellent/groups/techpub_sg/documents/packagingspec/en012702.pdf
footprint SOIC-SO28_N (SOIC, 28-Leads, Body 17.9x7.5mm, Pitch 1.27mm, IPC Medium Density)
footprint SOIC-SO28_L (SOIC, 28-Leads, Body 17.9x7.5mm, Pitch 1.27mm, IPC High Density)
footprint SOIC-SO28_M (SOIC, 28-Leads, Body 17.9x7.5mm, Pitch 1.27mm, IPC Low Density)
pins: 1 ~{MCLR}/VPP (in), 2 RA0/AN0 (io), 3 RA1/AN1 (io), 4 RA2/AN2 (io), 5 RA3/AN3/VREF (io), 6 RA4/T0CKI (io), 7 RA5/AN4/~{SS} (io), 8 VSS (power), 9 OSC1/CLKI (in), 10 OSC2/CLKO (out), 11 RC0/T1OSO/T1CKI (io), 12 RC1/T1OSI (io), 13 RC2/CCP1 (io), 14 RC3/SCK/SCL (io), 15 RC4/SDI/SDA (io), 16 RC5/SDO (io), 17 RC6 (io), 18 RC7 (io), 19 VSS (power), 20 VDD (power), 21 RB0/INT (io), 22 RB1 (io), 23 RB2 (io), 24 RB3 (io), 25 RB4 (io), 26 RB5 (io), 27 RB6/PGC (io), 28 RB7/PGD (io)

## PIC16F72T-I/SS
designator U?
8-Bit CMOS FLASH Microcontroller with A/D Converter, 2K (x14-Bit words) FLASH, 128 Bytes RAM, 28-Pin SSOP, Standard VDD Range, Industrial Temperature, Tape and Reel; Manufacturer: Microchip; PartNumber: PIC16F72T-I/SS; Note: RB3 is the alternate pin for the CCP2 pin multiplexing.; DatasheetVersion: revC, Jan-2007; PackageVersion: revBB, Aug-2009; PackageReference: SSOP-SS28; PackageDescription: 28-Lead Plastic Shrink Small Outline (SS) - 5.3mm Body [SSOP]; Supplier 1: Digi-Key; Supplier Part Number 1: PIC16F72T-I/SS-ND; Supplier 2: Mouser; Supplier Part Number 2: 579-PIC16F72T-I/SS; Code_JEDEC: MS-150; ComponentLink1Description: Manufacturer URL; ComponentLink1URL: http://www.microchip.com/; ComponentLink2Description: Datasheet; ComponentLink2URL: http://ww1.microchip.com/downloads/en/DeviceDoc/39597C.pdf; ComponentLink3Description: Package Specification; ComponentLink3URL: http://www.microchip.com/stellent/groups/techpub_sg/documents/packagingspec/en012702.pdf
footprint SSOP-SS28_N (SOP, 28-Leads, Body 10.2x5.2mm, Pitch 0.65mm, IPC Medium Density)
footprint SSOP-SS28_L (SOP, 28-Leads, Body 10.2x5.2mm, Pitch 0.65mm, IPC High Density)
footprint SSOP-SS28_M (SOP, 28-Leads, Body 10.2x5.2mm, Pitch 0.65mm, IPC Low Density)
pins: 1 ~{MCLR}/VPP (in), 2 RA0/AN0 (io), 3 RA1/AN1 (io), 4 RA2/AN2 (io), 5 RA3/AN3/VREF (io), 6 RA4/T0CKI (io), 7 RA5/AN4/~{SS} (io), 8 VSS (power), 9 OSC1/CLKI (in), 10 OSC2/CLKO (out), 11 RC0/T1OSO/T1CKI (io), 12 RC1/T1OSI (io), 13 RC2/CCP1 (io), 14 RC3/SCK/SCL (io), 15 RC4/SDI/SDA (io), 16 RC5/SDO (io), 17 RC6 (io), 18 RC7 (io), 19 VSS (power), 20 VDD (power), 21 RB0/INT (io), 22 RB1 (io), 23 RB2 (io), 24 RB3 (io), 25 RB4 (io), 26 RB5 (io), 27 RB6/PGC (io), 28 RB7/PGD (io)

## PIC16F73-E/ML
designator U?
8-bit CMOS FLASH Microcontroller, 4K (x14-Bit words) Program Memory, 192 Bytes Data Memory, 28-Pin QFN, Standard VDD Range, Extended Temperature; Manufacturer: Microchip; PartNumber: PIC16F73-E/ML; DatasheetVersion: revB, 2001; PackageVersion: revBB, Aug-2009; PackageReference: QFN-ML28; PackageDescription: 28-Lead Plastic Quad Flat, No Lead Package (ML) - 6x6 mm Body [QFN] with 0.55 mm Contact Length; Supplier 1: Digi-Key; Supplier Part Number 1: PIC16F73-E/ML-ND; Supplier 2: Mouser; Supplier Part Number 2: 579-PIC16F73-E/ML; Code_JEDEC: MO-220; ComponentLink1Description: Manufacturer URL; ComponentLink1URL: http://www.microchip.com/; ComponentLink2Description: Datasheet; ComponentLink2URL: http://ww1.microchip.com/downloads/en/DeviceDoc/30325b.pdf; ComponentLink3Description: Package Specification; ComponentLink3URL: http://www.microchip.com/stellent/groups/techpub_sg/documents/packagingspec/en012702.pdf
footprint QFN-ML28_N (QFN, 28-Leads, Body 6x6mm, Pitch 0.65mm, Thermal Pad 4.2x4.2mm, IPC Medium Density)
footprint QFN-ML28_L (QFN, 28-Leads, Body 6x6mm, Pitch 0.65mm, Thermal Pad 4.2x4.2mm, IPC High Density)
footprint QFN-ML28_M (QFN, 28-Leads, Body 6x6mm, Pitch 0.65mm, Thermal Pad 4.2x4.2mm, IPC Low Density)
pins: 1 RA2/AN2 (io), 2 RA3/AN3/VREF (io), 3 RA4/T0CKI (io), 4 RA5/AN4/~{SS} (io), 5 VSS (power), 6 OSC1/CLKI (in), 7 OSC2/CLKO (out), 8 RC0/T1OSO/T1CKI (io), 9 RC1/T1OSI/CCP2 (io), 10 RC2/CCP1 (io), 11 RC3/SCK/SCL (io), 12 RC4/SDI/SDA (io), 13 RC5/SDO (io), 14 RC6/TX/CK (io), 15 RC7/RX/DT (io), 16 VSS (power), 17 VDD (power), 18 RB0/INT (io), 19 RB1 (io), 20 RB2 (io), 21 RB3/PGM (io), 22 RB4 (io), 23 RB5 (io), 24 RB6/PGC (io), 25 RB7/PGD (io), 26 ~{MCLR}/VPP (in), 27 RA0/AN0 (io), 28 RA1/AN1 (io), 29 Thermal Pad

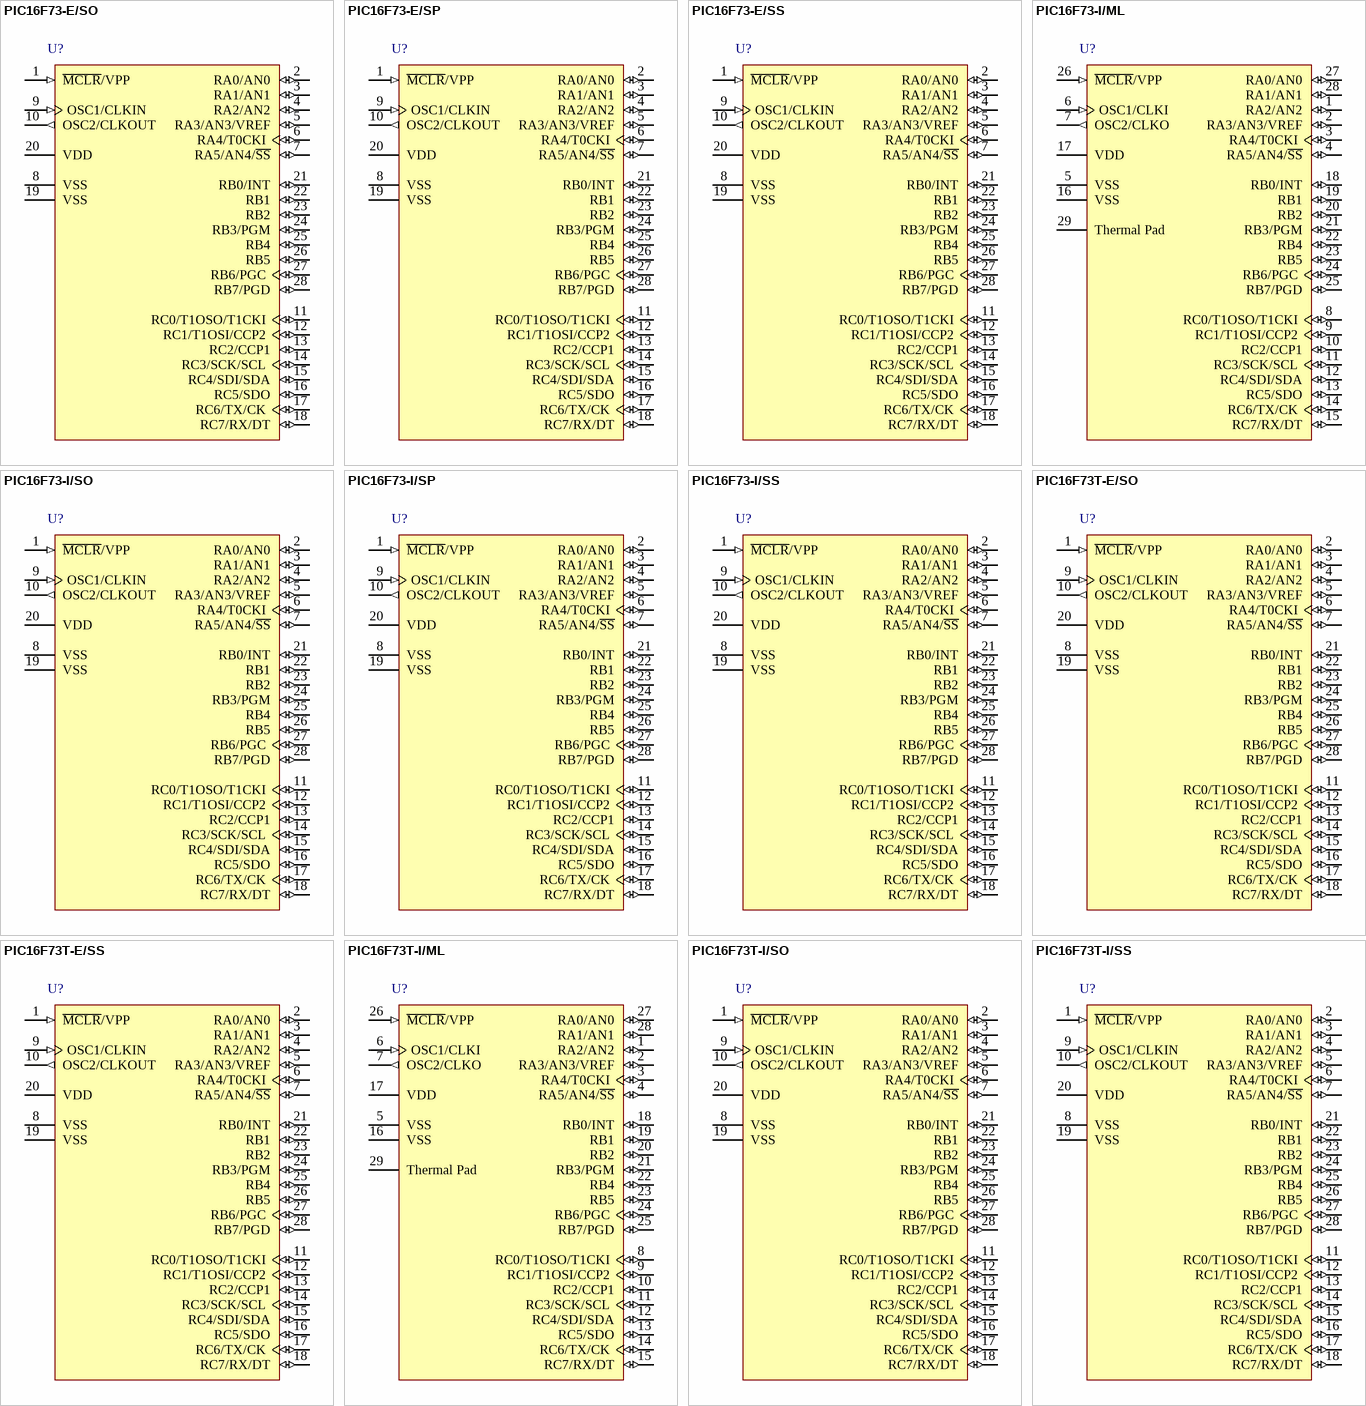
[diagram p26: symbols PIC16F73-E/SO to PIC16F73T-I/SS]

## PIC16F73-E/SO
designator U?
8-bit CMOS FLASH Microcontroller, 4K (x14-Bit words) Program Memory, 192 Bytes Data Memory, 28-Pin SOIC, Standard VDD Range, Extended Temperature; Manufacturer: Microchip; PartNumber: PIC16F73-E/SO; DatasheetVersion: revB, 2001; PackageVersion: revBB, Aug-2009; PackageReference: SOIC-SO28; PackageDescription: 28-Lead Plastic Small Outline (SO) - Wide 7.50mm Body [SOIC]; Supplier 1: Digi-Key; Supplier Part Number 1: PIC16F73-E/SO-ND; Supplier 2: Mouser; Supplier Part Number 2: 579-PIC16F73-E/SO; Code_JEDEC: MS-013; ComponentLink1Description: Manufacturer URL; ComponentLink1URL: http://www.microchip.com/; ComponentLink2Description: Datasheet; ComponentLink2URL: http://ww1.microchip.com/downloads/en/DeviceDoc/30325b.pdf; ComponentLink3Description: Package Specification; ComponentLink3URL: http://www.microchip.com/stellent/groups/techpub_sg/documents/packagingspec/en012702.pdf
footprint SOIC-SO28_N (SOIC, 28-Leads, Body 17.9x7.5mm, Pitch 1.27mm, IPC Medium Density)
footprint SOIC-SO28_L (SOIC, 28-Leads, Body 17.9x7.5mm, Pitch 1.27mm, IPC High Density)
footprint SOIC-SO28_M (SOIC, 28-Leads, Body 17.9x7.5mm, Pitch 1.27mm, IPC Low Density)
pins: 1 ~{MCLR}/VPP (in), 2 RA0/AN0 (io), 3 RA1/AN1 (io), 4 RA2/AN2 (io), 5 RA3/AN3/VREF (io), 6 RA4/T0CKI (io), 7 RA5/AN4/~{SS} (io), 8 VSS (power), 9 OSC1/CLKIN (in), 10 OSC2/CLKOUT (out), 11 RC0/T1OSO/T1CKI (io), 12 RC1/T1OSI/CCP2 (io), 13 RC2/CCP1 (io), 14 RC3/SCK/SCL (io), 15 RC4/SDI/SDA (io), 16 RC5/SDO (io), 17 RC6/TX/CK (io), 18 RC7/RX/DT (io), 19 VSS (power), 20 VDD (power), 21 RB0/INT (io), 22 RB1 (io), 23 RB2 (io), 24 RB3/PGM (io), 25 RB4 (io), 26 RB5 (io), 27 RB6/PGC (io), 28 RB7/PGD (io)

## PIC16F73-E/SP
designator U?
8-bit CMOS FLASH Microcontroller, 4K (x14-Bit words) Program Memory, 192 Bytes Data Memory, 28-Pin SPDIP, Standard VDD Range, Extended Temperature; Manufacturer: Microchip; PartNumber: PIC16F73-E/SP; DatasheetVersion: revB, 2001; PackageVersion: revBB, Aug-2009; PackageReference: SPDIP300-SP28; PackageDescription: 28-Lead Skinny Plastic Dual In-Line (SP) - 300 mil Body [SPDIP]; Supplier 1: Digi-Key; Supplier Part Number 1: PIC16F73-E/SP-ND; Supplier 2: Farnell; Supplier Part Number 2: 2318450; Supplier 3: Newark; Supplier Part Number 3: 92C4560; Supplier 4: Mouser; Supplier Part Number 4: 579-PIC16F73-E/SP; ComponentLink1Description: Manufacturer URL; ComponentLink1URL: http://www.microchip.com/; ComponentLink2Description: Datasheet; ComponentLink2URL: http://ww1.microchip.com/downloads/en/DeviceDoc/30325b.pdf; ComponentLink3Description: Package Specification; ComponentLink3URL: http://www.microchip.com/stellent/groups/techpub_sg/documents/packagingspec/en012702.pdf
footprint SPDIP300-SP28 (DIP, 28-Leads, Row Spacing 7.62mm, Pitch 2.54mm, Body 34.9x6.8mm)
pins: 1 ~{MCLR}/VPP (in), 2 RA0/AN0 (io), 3 RA1/AN1 (io), 4 RA2/AN2 (io), 5 RA3/AN3/VREF (io), 6 RA4/T0CKI (io), 7 RA5/AN4/~{SS} (io), 8 VSS (power), 9 OSC1/CLKIN (in), 10 OSC2/CLKOUT (out), 11 RC0/T1OSO/T1CKI (io), 12 RC1/T1OSI/CCP2 (io), 13 RC2/CCP1 (io), 14 RC3/SCK/SCL (io), 15 RC4/SDI/SDA (io), 16 RC5/SDO (io), 17 RC6/TX/CK (io), 18 RC7/RX/DT (io), 19 VSS (power), 20 VDD (power), 21 RB0/INT (io), 22 RB1 (io), 23 RB2 (io), 24 RB3/PGM (io), 25 RB4 (io), 26 RB5 (io), 27 RB6/PGC (io), 28 RB7/PGD (io)

## PIC16F73-E/SS
designator U?
8-bit CMOS FLASH Microcontroller, 4K (x14-Bit words) Program Memory, 192 Bytes Data Memory, 28-Pin SSOP, Standard VDD Range, Extended Temperature; Manufacturer: Microchip; PartNumber: PIC16F73-E/SS; DatasheetVersion: revB, 2001; PackageVersion: revBB, Aug-2009; PackageReference: SSOP-SS28; PackageDescription: 28-Lead Plastic Shrink Small Outline (SS) - 5.3mm Body [SSOP]; Supplier 1: Digi-Key; Supplier Part Number 1: PIC16F73-E/SS-ND; Supplier 2: Mouser; Supplier Part Number 2: 579-PIC16F73-E/SS; Code_JEDEC: MS-150; ComponentLink1Description: Manufacturer URL; ComponentLink1URL: http://www.microchip.com/; ComponentLink2Description: Datasheet; ComponentLink2URL: http://ww1.microchip.com/downloads/en/DeviceDoc/30325b.pdf; ComponentLink3Description: Package Specification; ComponentLink3URL: http://www.microchip.com/stellent/groups/techpub_sg/documents/packagingspec/en012702.pdf
footprint SSOP-SS28_N (SOP, 28-Leads, Body 10.2x5.2mm, Pitch 0.65mm, IPC Medium Density)
footprint SSOP-SS28_L (SOP, 28-Leads, Body 10.2x5.2mm, Pitch 0.65mm, IPC High Density)
footprint SSOP-SS28_M (SOP, 28-Leads, Body 10.2x5.2mm, Pitch 0.65mm, IPC Low Density)
pins: 1 ~{MCLR}/VPP (in), 2 RA0/AN0 (io), 3 RA1/AN1 (io), 4 RA2/AN2 (io), 5 RA3/AN3/VREF (io), 6 RA4/T0CKI (io), 7 RA5/AN4/~{SS} (io), 8 VSS (power), 9 OSC1/CLKIN (in), 10 OSC2/CLKOUT (out), 11 RC0/T1OSO/T1CKI (io), 12 RC1/T1OSI/CCP2 (io), 13 RC2/CCP1 (io), 14 RC3/SCK/SCL (io), 15 RC4/SDI/SDA (io), 16 RC5/SDO (io), 17 RC6/TX/CK (io), 18 RC7/RX/DT (io), 19 VSS (power), 20 VDD (power), 21 RB0/INT (io), 22 RB1 (io), 23 RB2 (io), 24 RB3/PGM (io), 25 RB4 (io), 26 RB5 (io), 27 RB6/PGC (io), 28 RB7/PGD (io)

## PIC16F73-I/ML
designator U?
8-bit CMOS FLASH Microcontroller, 4K (x14-Bit words) Program Memory, 192 Bytes Data Memory, 28-Pin QFN, Standard VDD Range, Industrial Temperature; Manufacturer: Microchip; PartNumber: PIC16F73-I/ML; DatasheetVersion: revB, 2001; PackageVersion: revBB, Aug-2009; PackageReference: QFN-ML28; PackageDescription: 28-Lead Plastic Quad Flat, No Lead Package (ML) - 6x6 mm Body [QFN] with 0.55 mm Contact Length; Supplier 1: Digi-Key; Supplier Part Number 1: PIC16F73-I/ML-ND; Supplier 2: Mouser; Supplier Part Number 2: 579-PIC16F73-I/ML; Code_JEDEC: MO-220; ComponentLink1Description: Manufacturer URL; ComponentLink1URL: http://www.microchip.com/; ComponentLink2Description: Datasheet; ComponentLink2URL: http://ww1.microchip.com/downloads/en/DeviceDoc/30325b.pdf; ComponentLink3Description: Package Specification; ComponentLink3URL: http://www.microchip.com/stellent/groups/techpub_sg/documents/packagingspec/en012702.pdf
footprint QFN-ML28_N (QFN, 28-Leads, Body 6x6mm, Pitch 0.65mm, Thermal Pad 4.2x4.2mm, IPC Medium Density)
footprint QFN-ML28_L (QFN, 28-Leads, Body 6x6mm, Pitch 0.65mm, Thermal Pad 4.2x4.2mm, IPC High Density)
footprint QFN-ML28_M (QFN, 28-Leads, Body 6x6mm, Pitch 0.65mm, Thermal Pad 4.2x4.2mm, IPC Low Density)
pins: 1 RA2/AN2 (io), 2 RA3/AN3/VREF (io), 3 RA4/T0CKI (io), 4 RA5/AN4/~{SS} (io), 5 VSS (power), 6 OSC1/CLKI (in), 7 OSC2/CLKO (out), 8 RC0/T1OSO/T1CKI (io), 9 RC1/T1OSI/CCP2 (io), 10 RC2/CCP1 (io), 11 RC3/SCK/SCL (io), 12 RC4/SDI/SDA (io), 13 RC5/SDO (io), 14 RC6/TX/CK (io), 15 RC7/RX/DT (io), 16 VSS (power), 17 VDD (power), 18 RB0/INT (io), 19 RB1 (io), 20 RB2 (io), 21 RB3/PGM (io), 22 RB4 (io), 23 RB5 (io), 24 RB6/PGC (io), 25 RB7/PGD (io), 26 ~{MCLR}/VPP (in), 27 RA0/AN0 (io), 28 RA1/AN1 (io), 29 Thermal Pad

## PIC16F73-I/SO
designator U?
8-bit CMOS FLASH Microcontroller, 4K (x14-Bit words) Program Memory, 192 Bytes Data Memory, 28-Pin SOIC, Standard VDD Range, Industrial Temperature; Manufacturer: Microchip; PartNumber: PIC16F73-I/SO; DatasheetVersion: revB, 2001; PackageVersion: revBB, Aug-2009; PackageReference: SOIC-SO28; PackageDescription: 28-Lead Plastic Small Outline (SO) - Wide 7.50mm Body [SOIC]; Supplier 1: Digi-Key; Supplier Part Number 1: PIC16F73-I/SO-ND; Supplier 2: Farnell; Supplier Part Number 2: 9760660; Supplier 3: Farnell; Supplier Part Number 3: 9760660MPKG; Supplier 4: Farnell; Supplier Part Number 4: 1660024; Supplier 5: Newark; Supplier Part Number 5: 28C7558; Supplier 6: Mouser; Supplier Part Number 6: 579-PIC16F73ISO; Code_JEDEC: MS-013; ComponentLink1Description: Manufacturer URL; ComponentLink1URL: http://www.microchip.com/; ComponentLink2Description: Datasheet; ComponentLink2URL: http://ww1.microchip.com/downloads/en/DeviceDoc/30325b.pdf; ComponentLink3Description: Package Specification; ComponentLink3URL: http://www.microchip.com/stellent/groups/techpub_sg/documents/packagingspec/en012702.pdf
footprint SOIC-SO28_N (SOIC, 28-Leads, Body 17.9x7.5mm, Pitch 1.27mm, IPC Medium Density)
footprint SOIC-SO28_L (SOIC, 28-Leads, Body 17.9x7.5mm, Pitch 1.27mm, IPC High Density)
footprint SOIC-SO28_M (SOIC, 28-Leads, Body 17.9x7.5mm, Pitch 1.27mm, IPC Low Density)
pins: 1 ~{MCLR}/VPP (in), 2 RA0/AN0 (io), 3 RA1/AN1 (io), 4 RA2/AN2 (io), 5 RA3/AN3/VREF (io), 6 RA4/T0CKI (io), 7 RA5/AN4/~{SS} (io), 8 VSS (power), 9 OSC1/CLKIN (in), 10 OSC2/CLKOUT (out), 11 RC0/T1OSO/T1CKI (io), 12 RC1/T1OSI/CCP2 (io), 13 RC2/CCP1 (io), 14 RC3/SCK/SCL (io), 15 RC4/SDI/SDA (io), 16 RC5/SDO (io), 17 RC6/TX/CK (io), 18 RC7/RX/DT (io), 19 VSS (power), 20 VDD (power), 21 RB0/INT (io), 22 RB1 (io), 23 RB2 (io), 24 RB3/PGM (io), 25 RB4 (io), 26 RB5 (io), 27 RB6/PGC (io), 28 RB7/PGD (io)

## PIC16F73-I/SP
designator U?
8-bit CMOS FLASH Microcontroller, 4K (x14-Bit words) Program Memory, 192 Bytes Data Memory, 28-Pin SPDIP, Standard VDD Range, Industrial Temperature; Manufacturer: Microchip; PartNumber: PIC16F73-I/SP; DatasheetVersion: revB, 2001; PackageVersion: revBB, Aug-2009; PackageReference: SPDIP300-SP28; PackageDescription: 28-Lead Skinny Plastic Dual In-Line (SP) - 300 mil Body [SPDIP]; Supplier 1: Digi-Key; Supplier Part Number 1: PIC16F73-I/SP-ND; Supplier 2: Farnell; Supplier Part Number 2: 9760679; Supplier 3: Farnell; Supplier Part Number 3: 1523941; Supplier 4: Newark; Supplier Part Number 4: 61K3451; Supplier 5: Mouser; Supplier Part Number 5: 579-PIC16F73ISP; ComponentLink1Description: Manufacturer URL; ComponentLink1URL: http://www.microchip.com/; ComponentLink2Description: Datasheet; ComponentLink2URL: http://ww1.microchip.com/downloads/en/DeviceDoc/30325b.pdf; ComponentLink3Description: Package Specification; ComponentLink3URL: http://www.microchip.com/stellent/groups/techpub_sg/documents/packagingspec/en012702.pdf
footprint SPDIP300-SP28 (DIP, 28-Leads, Row Spacing 7.62mm, Pitch 2.54mm, Body 34.9x6.8mm)
pins: 1 ~{MCLR}/VPP (in), 2 RA0/AN0 (io), 3 RA1/AN1 (io), 4 RA2/AN2 (io), 5 RA3/AN3/VREF (io), 6 RA4/T0CKI (io), 7 RA5/AN4/~{SS} (io), 8 VSS (power), 9 OSC1/CLKIN (in), 10 OSC2/CLKOUT (out), 11 RC0/T1OSO/T1CKI (io), 12 RC1/T1OSI/CCP2 (io), 13 RC2/CCP1 (io), 14 RC3/SCK/SCL (io), 15 RC4/SDI/SDA (io), 16 RC5/SDO (io), 17 RC6/TX/CK (io), 18 RC7/RX/DT (io), 19 VSS (power), 20 VDD (power), 21 RB0/INT (io), 22 RB1 (io), 23 RB2 (io), 24 RB3/PGM (io), 25 RB4 (io), 26 RB5 (io), 27 RB6/PGC (io), 28 RB7/PGD (io)

## PIC16F73-I/SS
designator U?
8-bit CMOS FLASH Microcontroller, 4K (x14-Bit words) Program Memory, 192 Bytes Data Memory, 28-Pin SSOP, Standard VDD Range, Industrial Temperature; Manufacturer: Microchip; PartNumber: PIC16F73-I/SS; DatasheetVersion: revB, 2001; PackageVersion: revBB, Aug-2009; PackageReference: SSOP-SS28; PackageDescription: 28-Lead Plastic Shrink Small Outline (SS) - 5.3mm Body [SSOP]; Supplier 1: Digi-Key; Supplier Part Number 1: PIC16F73-I/SS-ND; Supplier 2: Farnell; Supplier Part Number 2: 9760687; Supplier 3: Newark; Supplier Part Number 3: 60K6715; Supplier 4: Mouser; Supplier Part Number 4: 579-PIC16F73-I/SS; Code_JEDEC: MS-150; ComponentLink1Description: Manufacturer URL; ComponentLink1URL: http://www.microchip.com/; ComponentLink2Description: Datasheet; ComponentLink2URL: http://ww1.microchip.com/downloads/en/DeviceDoc/30325b.pdf; ComponentLink3Description: Package Specification; ComponentLink3URL: http://www.microchip.com/stellent/groups/techpub_sg/documents/packagingspec/en012702.pdf
footprint SSOP-SS28_N (SOP, 28-Leads, Body 10.2x5.2mm, Pitch 0.65mm, IPC Medium Density)
footprint SSOP-SS28_L (SOP, 28-Leads, Body 10.2x5.2mm, Pitch 0.65mm, IPC High Density)
footprint SSOP-SS28_M (SOP, 28-Leads, Body 10.2x5.2mm, Pitch 0.65mm, IPC Low Density)
pins: 1 ~{MCLR}/VPP (in), 2 RA0/AN0 (io), 3 RA1/AN1 (io), 4 RA2/AN2 (io), 5 RA3/AN3/VREF (io), 6 RA4/T0CKI (io), 7 RA5/AN4/~{SS} (io), 8 VSS (power), 9 OSC1/CLKIN (in), 10 OSC2/CLKOUT (out), 11 RC0/T1OSO/T1CKI (io), 12 RC1/T1OSI/CCP2 (io), 13 RC2/CCP1 (io), 14 RC3/SCK/SCL (io), 15 RC4/SDI/SDA (io), 16 RC5/SDO (io), 17 RC6/TX/CK (io), 18 RC7/RX/DT (io), 19 VSS (power), 20 VDD (power), 21 RB0/INT (io), 22 RB1 (io), 23 RB2 (io), 24 RB3/PGM (io), 25 RB4 (io), 26 RB5 (io), 27 RB6/PGC (io), 28 RB7/PGD (io)

## PIC16F73T-E/SO
designator U?
8-bit CMOS FLASH Microcontroller, 4K (x14-Bit words) Program Memory, 192 Bytes Data Memory, 28-Pin SOIC, Standard VDD Range, Extended Temperature, Tape and Reel; Manufacturer: Microchip; PartNumber: PIC16F73T-E/SO; DatasheetVersion: revB, 2001; PackageVersion: revBB, Aug-2009; PackageReference: SOIC-SO28; PackageDescription: 28-Lead Plastic Small Outline (SO) - Wide 7.50mm Body [SOIC]; Supplier 1: Digi-Key; Supplier Part Number 1: PIC16F73T-E/SO-ND; Supplier 2: Mouser; Supplier Part Number 2: 579-PIC16F73T-E/SO; Code_JEDEC: MS-013; ComponentLink1Description: Manufacturer URL; ComponentLink1URL: http://www.microchip.com/; ComponentLink2Description: Datasheet; ComponentLink2URL: http://ww1.microchip.com/downloads/en/DeviceDoc/30325b.pdf; ComponentLink3Description: Package Specification; ComponentLink3URL: http://www.microchip.com/stellent/groups/techpub_sg/documents/packagingspec/en012702.pdf
footprint SOIC-SO28_N (SOIC, 28-Leads, Body 17.9x7.5mm, Pitch 1.27mm, IPC Medium Density)
footprint SOIC-SO28_L (SOIC, 28-Leads, Body 17.9x7.5mm, Pitch 1.27mm, IPC High Density)
footprint SOIC-SO28_M (SOIC, 28-Leads, Body 17.9x7.5mm, Pitch 1.27mm, IPC Low Density)
pins: 1 ~{MCLR}/VPP (in), 2 RA0/AN0 (io), 3 RA1/AN1 (io), 4 RA2/AN2 (io), 5 RA3/AN3/VREF (io), 6 RA4/T0CKI (io), 7 RA5/AN4/~{SS} (io), 8 VSS (power), 9 OSC1/CLKIN (in), 10 OSC2/CLKOUT (out), 11 RC0/T1OSO/T1CKI (io), 12 RC1/T1OSI/CCP2 (io), 13 RC2/CCP1 (io), 14 RC3/SCK/SCL (io), 15 RC4/SDI/SDA (io), 16 RC5/SDO (io), 17 RC6/TX/CK (io), 18 RC7/RX/DT (io), 19 VSS (power), 20 VDD (power), 21 RB0/INT (io), 22 RB1 (io), 23 RB2 (io), 24 RB3/PGM (io), 25 RB4 (io), 26 RB5 (io), 27 RB6/PGC (io), 28 RB7/PGD (io)